# Altium footprint library joystick.PcbLib: 1 footprints
Each footprint in its own frame and in the unit in brackets; x right, y up, seen from the top. Pads: shape width x height; smd on the part's side, far side on the other; paste and mask are expansions set on the pad; w line width, h text height; cw(c..) or ccw(c..) is an arc to the next point about the centre after c.
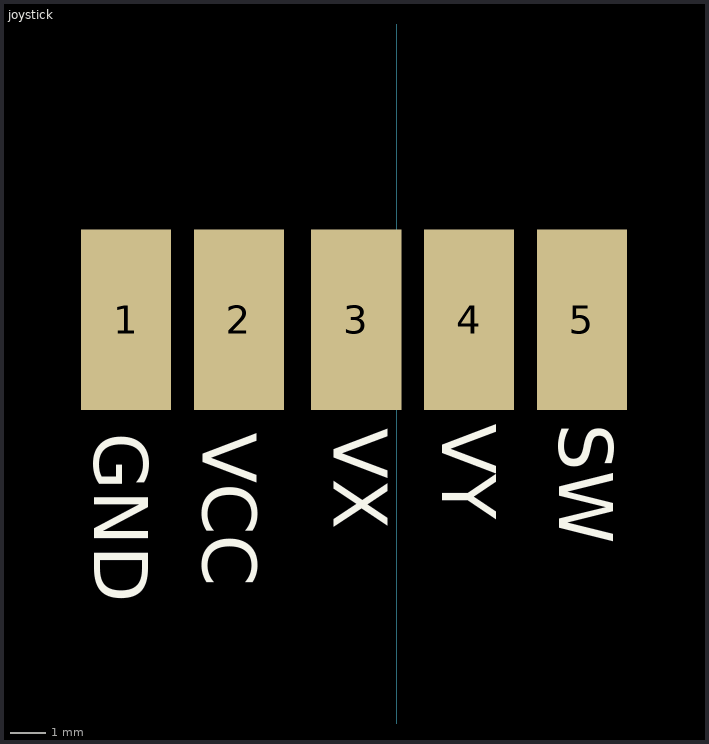
[diagram p0: the footprint, top view; thin cyan lines are the x and y axes]

## joystick [mil]
pads (5):
  rect 100x200 smd: 1(-300,-770) 2(-175,-770) 3(-45,-770) 4(80,-770) 5(205,-770)
Top Overlay:
  text "SW" at 180,-885 h60
  text "VY" at 50,-885 h60
  text "VX" at -70,-890 h60
  text "VCC" at -215,-895 h60
  text "GND" at -335,-895 h60